# Altium footprint library PORTS.PcbLib: 1 footprints
Each footprint in its own frame and in the unit in brackets; x right, y up, seen from the top. Pads: shape width x height; smd on the part's side, far side on the other; paste and mask are expansions set on the pad; w line width, h text height; cw(c..) or ccw(c..) is an arc to the next point about the centre after c.
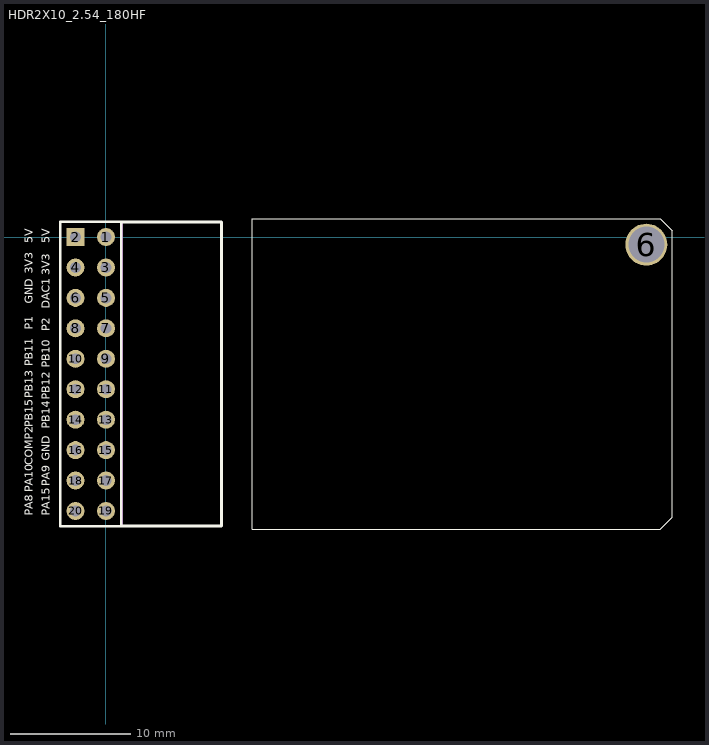
[diagram p0: the footprint, top view; thin cyan lines are the x and y axes]

## HDR2X10_2.54_180HF [mm]
height 4.3
pads (21):
  round 1.5 hole 0.9: 1(0,0) 3(0,-2.54) 4(-2.54,-2.54) 5(0,-5.08) 6(-2.54,-5.08) 7(0,-7.62) 8(-2.54,-7.62) 9(0,-10.16) 10(-2.54,-10.16) 11(0,-12.7) 12(-2.54,-12.7) 13(0,-15.24) 14(-2.54,-15.24) 15(0,-17.78) 16(-2.54,-17.78) 17(0,-20.32) 18(-2.54,-20.32) 19(0,-22.86) 20(-2.54,-22.86)
  rect 1.5x1.5 hole 0.9: 2(-2.54,0)
  round 3.5 hole 3: 6(45.085,-0.635)
Top Overlay:
  lines w0.051: 12.192,-24.384 12.192,1.524 46.228,1.524 46.482,1.27 47.244,0.508 47.244,-23.368 46.228,-24.384 12.192,-24.384
  lines w0.2: -3.81,-24.13 -3.81,-0.635 -3.81,1.27 1.27,1.27 1.27,-0.635 1.27,-24.13 -3.81,-24.13
  lines w0.254: 1.27,-24.13 9.652,-24.13 9.652,1.27 1.27,1.27
  text "5V" at -4.445,-0.508 h1.14
  text "PA9" at -4.445,-20.786 h1.14
  text "PB14" at -4.437,-16.002 h1.14
  text "PB12" at -4.437,-13.589 h1.14
  text "PB10" at -4.445,-10.908 h1.14
  text "P2" at -4.437,-7.874 h1.14
  text "DAC1" at -4.445,-5.969 h1.14
  text "GND" at -4.445,-18.669 h1.14
  text "3V3" at -4.445,-3.175 h1.14
  text "PA15" at -4.445,-23.255 h1.14
  text "PA8" at -5.843,-23.241 h1.14
  text "GND" at -5.842,-5.588 h1.14
  text "PB15" at -5.851,-15.875 h1.14
  text "PB13" at -5.842,-13.462 h1.14
  text "PB11" at -5.851,-10.795 h1.14
  text "3V3" at -5.842,-3.048 h1.14
  text "PA10" at -5.842,-21.294 h1.14
  text "COMP2" at -5.842,-19.05 h1.14
  text "P1" at -5.851,-7.747 h1.14
  text "5V" at -5.851,-0.508 h1.14
Mechanical 13:
  lines w0.051: -3.81,-24.13 -3.81,1.27 9.652,1.27 9.652,-24.13 -3.81,-24.13
Mechanical 14:
  lines w0.051: -3.81,-24.13 -3.81,1.27 1.397,1.27 1.397,-24.13 -3.81,-24.13
Mechanical 15:
  lines w0.051: -3.81,-24.13 -3.81,1.27 ; -2.921,-24.13 1.397,-24.13 1.397,1.27 -2.921,1.27